# Altium schematic symbol library MCP1711T-33I_OT.Schlib: 1 symbol
Pins are listed as number, name and electrical type; pins without a type are passive.

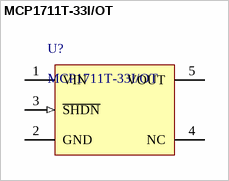
[diagram p0: symbol MCP1711T-33I/OT]

## MCP1711T-33I/OT
designator U?
Linear Voltage Regulator IC Positive Fixed 1 Output 150mA SOT-23-5
pins: 1 VIN (power), 2 GND (power), 3 ~{SHDN} (in), 4 NC, 5 VOUT (power)